# Altium integrated library Linear Technology Power Management LED Driver ICs.IntLib: 490 symbols (part 25 of 48)
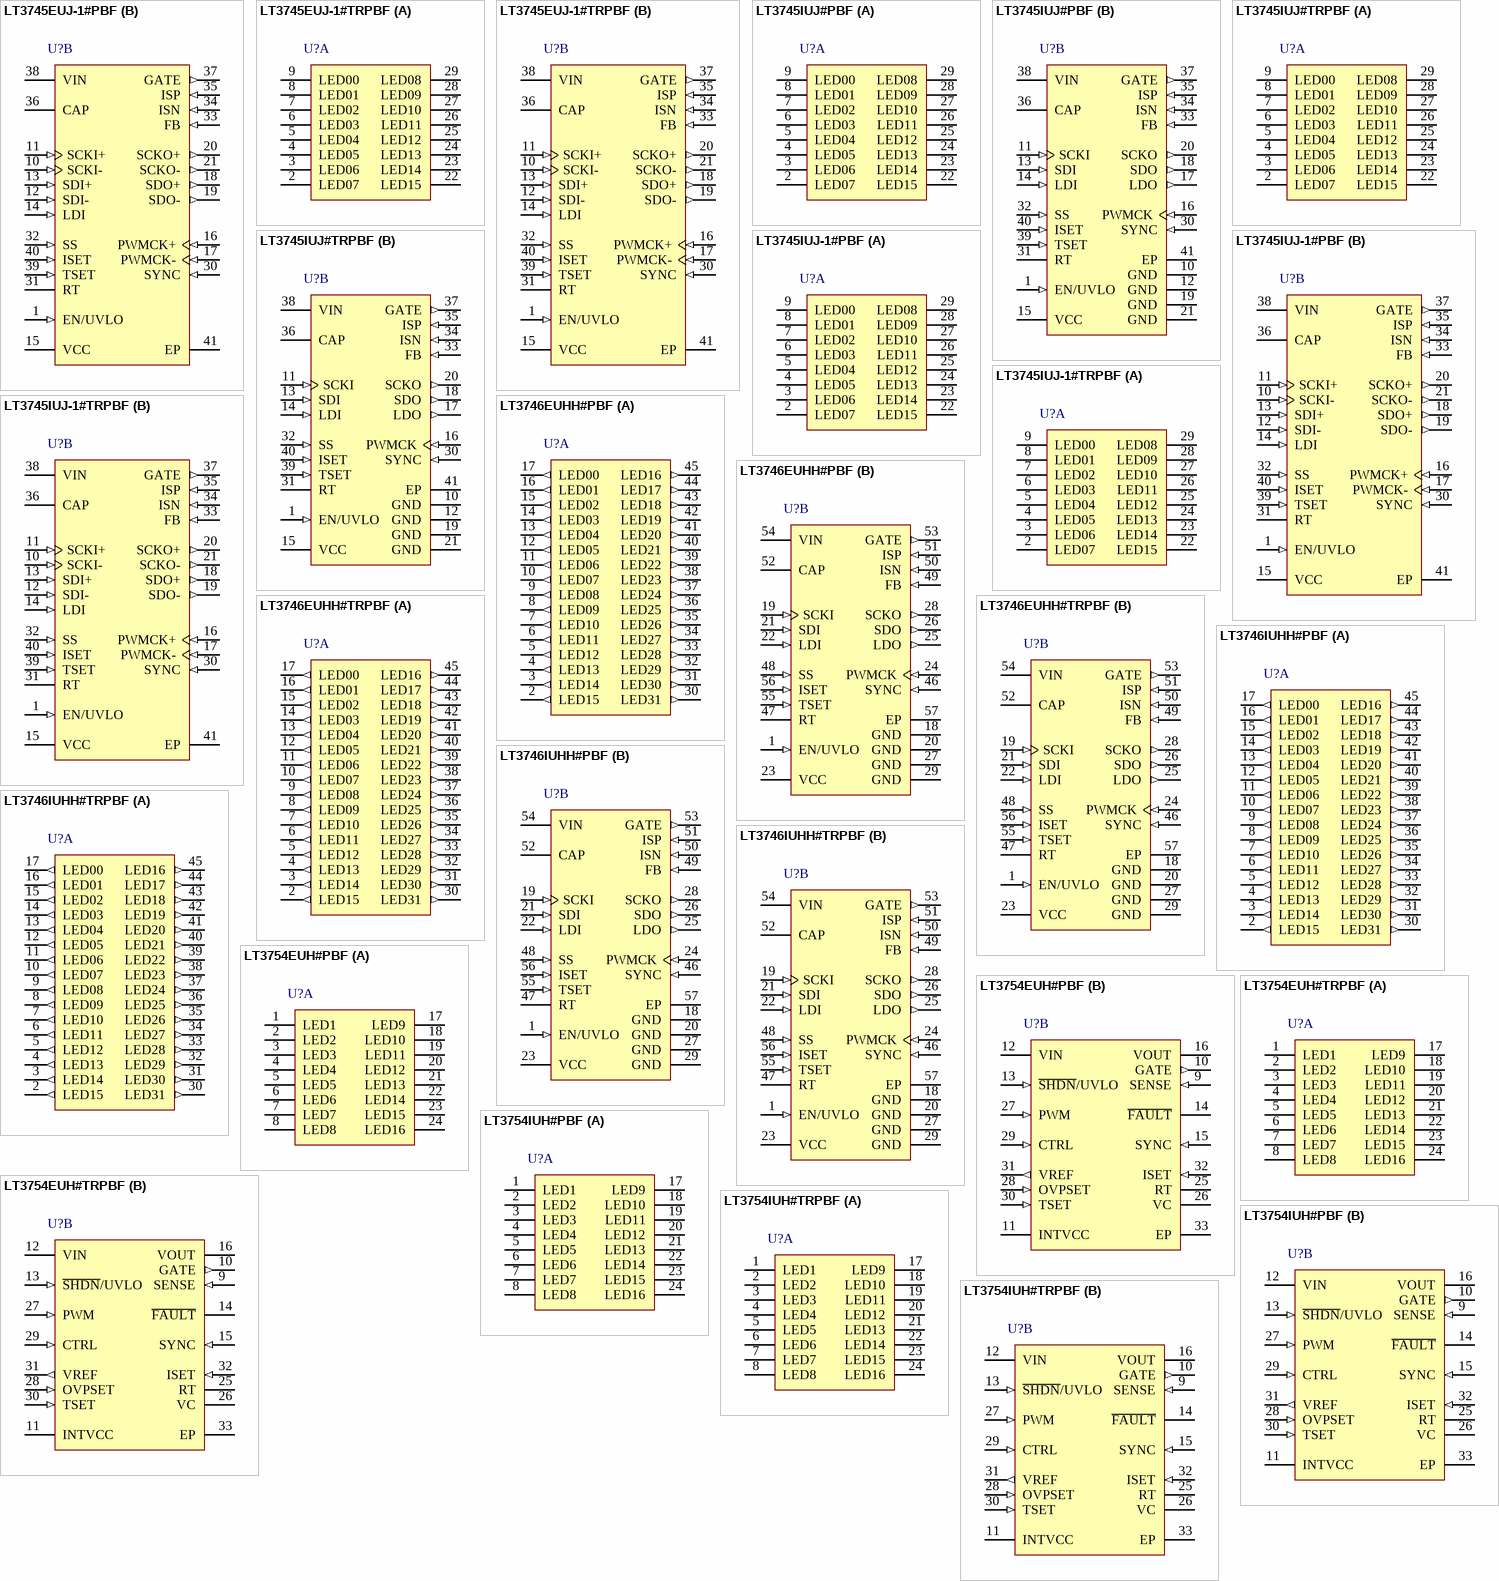
[diagram p44: symbols LT3745EUJ-1#PBF to LT3754IUH#TRPBF]

## LT3754IUH#PBF
designator U?
16-Channel x 50 mA LED Driver, 6 to 40 V Vin, 45 V Vout MAX, 32-pin QFN (UH-32), -40 to 125 degC, Pb-Free; Manufacturer: Linear Technology; PartNumber: LT3754IUH#PBF; Topology: Boost, LED Driver; Vin Min(V): 6; DatasheetVersion: Rev. C; PackageVersion: Rev. D, 06/2010; PackageReference: UH-32; PackageDescription: 32-Pin Plastic QFN, Body 5 x 5 mm, Pitch 0.5 mm; Supplier 1: Digi-Key; Supplier Part Number 1: LT3754IUH#PBF-ND; Supplier 2: Newark; Supplier Part Number 2: 72R5836; RoHS: TRUE; Mounting Technology: Surface Mount; Code_JEDEC: MO-220; ComponentLink1Description: Manufacturer URL; ComponentLink1URL: http://www.linear.com/; ComponentLink2Description: Datasheet; ComponentLink2URL: http://cds.linear.com/docs/en/datasheet/3754fc.pdf; ComponentLink3Description: Package Specification; ComponentLink3URL: http://cds.linear.com/docs/en/packaging/QFN_32_05-08-1693.pdf
footprint LT-UH-32_N (QFN, 32-Leads, Body 5.1x5.1mm, Pitch 0.5mm, Thermal Pad 3.45X3.45mm, IPC Medium Density)
footprint LT-UH-32_L (QFN, 32-Leads, Body 5.1x5.1mm, Pitch 0.5mm, Thermal Pad 3.45X3.45mm, IPC High Density)
footprint LT-UH-32_M (QFN, 32-Leads, Body 5.1x5.1mm, Pitch 0.5mm, Thermal Pad 3.45X3.45mm, IPC Low Density)
part A pins: 1 LED1 (oc) "16 LED Driver Outputs. Each output contains an open collector constant current sink. LED currents are programmable from 10mA to 50mA using a single resistor at the ISET pin. Connect the cathode of each LED string to an LED (See Datasheet)", 2 LED2 (oc) "16 LED Driver Outputs. Each output contains an open collector constant current sink. LED currents are programmable from 10mA to 50mA using a single resistor at the ISET pin. Connect the cathode of each LED string to an LED (See Datasheet)", 3 LED3 (oc) "16 LED Driver Outputs. Each output contains an open collector constant current sink. LED currents are programmable from 10mA to 50mA using a single resistor at the ISET pin. Connect the cathode of each LED string to an LED (See Datasheet)", 4 LED4 (oc) "16 LED Driver Outputs. Each output contains an open collector constant current sink. LED currents are programmable from 10mA to 50mA using a single resistor at the ISET pin. Connect the cathode of each LED string to an LED (See Datasheet)", 5 LED5 (oc) "16 LED Driver Outputs. Each output contains an open collector constant current sink. LED currents are programmable from 10mA to 50mA using a single resistor at the ISET pin. Connect the cathode of each LED string to an LED (See Datasheet)", 6 LED6 (oc) "16 LED Driver Outputs. Each output contains an open collector constant current sink. LED currents are programmable from 10mA to 50mA using a single resistor at the ISET pin. Connect the cathode of each LED string to an LED (See Datasheet)", 7 LED7 (oc) "16 LED Driver Outputs. Each output contains an open collector constant current sink. LED currents are programmable from 10mA to 50mA using a single resistor at the ISET pin. Connect the cathode of each LED string to an LED (See Datasheet)", 8 LED8 (oc) "16 LED Driver Outputs. Each output contains an open collector constant current sink. LED currents are programmable from 10mA to 50mA using a single resistor at the ISET pin. Connect the cathode of each LED string to an LED (See Datasheet)", 17 LED9 (oc) "16 LED Driver Outputs. Each output contains an open collector constant current sink. LED currents are programmable from 10mA to 50mA using a single resistor at the ISET pin. Connect the cathode of each LED string to an LED (See Datasheet)", 18 LED10 (oc) "16 LED Driver Outputs. Each output contains an open collector constant current sink. LED currents are programmable from 10mA to 50mA using a single resistor at the ISET pin. Connect the cathode of each LED string to an LED (See Datasheet)", 19 LED11 (oc) "16 LED Driver Outputs. Each output contains an open collector constant current sink. LED currents are programmable from 10mA to 50mA using a single resistor at the ISET pin. Connect the cathode of each LED string to an LED (See Datasheet)", 20 LED12 (oc) "16 LED Driver Outputs. Each output contains an open collector constant current sink. LED currents are programmable from 10mA to 50mA using a single resistor at the ISET pin. Connect the cathode of each LED string to an LED (See Datasheet)", 21 LED13 (oc) "16 LED Driver Outputs. Each output contains an open collector constant current sink. LED currents are programmable from 10mA to 50mA using a single resistor at the ISET pin. Connect the cathode of each LED string to an LED (See Datasheet)", 22 LED14 (oc) "16 LED Driver Outputs. Each output contains an open collector constant current sink. LED currents are programmable from 10mA to 50mA using a single resistor at the ISET pin. Connect the cathode of each LED string to an LED (See Datasheet)", 23 LED15 (oc) "16 LED Driver Outputs. Each output contains an open collector constant current sink. LED currents are programmable from 10mA to 50mA using a single resistor at the ISET pin. Connect the cathode of each LED string to an LED (See Datasheet)", 24 LED16 (oc) "16 LED Driver Outputs. Each output contains an open collector constant current sink. LED currents are programmable from 10mA to 50mA using a single resistor at the ISET pin. Connect the cathode of each LED string to an LED (See Datasheet)"
part B pins: 9 SENSE (in) "The Current Sense Input for the Control Loop. Connect this pin to the sense resistor in the source of the external power MOSFET.", 10 GATE (out) "Drives the gate of an N-channel MOSFET from 0V to INTVCC.", 11 INTVCC (power) "A 7V LDO supply generated from VIN and used to power the GATE driver and some control circuitry. Must be bypassed with a 4.7uF capacitor to GND.", 12 VIN (power) "Input Supply Pin. Must be locally bypassed with a 1uF capacitor to ground.", 13 ~{SHDN}/UVLO (in) "The S\H\D\N\/UVLO pin has an accurate 1.476V threshold and can be used to program an under voltage lockout (UVLO) threshold for system input supply using a resistor divider from supply to ground. A 2.4uA pin (See Datasheet)", 14 ~{FAULT} (oc) "Active low if any or all LED strings have an open fault. If fault(s) removed, F\A\U\L\T\ flag returns high.Fault status is only updated during PWM high state and latched during PWM low.", 15 SYNC (in) "Allows synchronization of boost converter switching frequency to an external clock. RT resistor should be programmed for fOSC 20% below SYNC frequency. If unused, connect to GND.", 16 VOUT (power) "Boosted Output Voltage of the Converter. Connect a capacitor from this pin to ground. Connect the anode of each LED (string) to VOUT.", 25 RT "A resistor to ground programs switching frequency fOSC between 0.1MHz and 1MHz.", 26 VC "Output of Both Transconductance Error Amplifiers for the Converter Regulation Loop. The most commonly used gm error amplifier (LED) regulates VOUT to ensure no LED pin falls below 1.1V. The other gm error amplifier (OVP) is (See Datasheet)", 27 PWM (in) "Input Pin for PWM Dimming Control. Above 1.4V allows converter switching and below 0.7V disables switching. The PWM signal can be driven from 0V to 6V. If unused, connect to VREF.", 28 OVPSET (in) "Programs maximum allowed VOUT regulation level if all LEDs are open circuit.", 29 CTRL (in) "CTRL pin voltage below 1V controls maximum LED current. CTRL voltage can be set by a resistor divider from VIN, VREF or an external voltage source. LED current derating versus temperature is achievable if the voltage (See Datasheet)", 30 TSET (in) "Programs LT3754 junction temperature breakpoint past which LED current will begin to derate.", 31 VREF (out) "1.485V Reference Output Pin. This pin can supply up to 150uA. Can be used to program CTRL, TSET and OVPSET pin voltages using resistor dividers to ground.", 32 ISET (in) "Resistor to Ground Programs LED pin current. See Table 6 in the Applications Information Section.", 33 EP (power) "GND. The ground for the IC and the converter. The package has an exposed pad (Pin 33) underneath the IC which is the best path for heat out of the package. Pin 33 should be soldered to a continuous copper ground plane under (See Datasheet)"

## LT3754IUH#TRPBF
designator U?
16-Channel x 50 mA LED Driver, 6 to 40 V Vin, 45 V Vout MAX, 32-pin QFN (UH-32), -40 to 125 degC, Pb-Free, Tape and Reel; Manufacturer: Linear Technology; PartNumber: LT3754IUH#TRPBF; Topology: Boost, LED Driver; Vin Min(V): 6; DatasheetVersion: Rev. C; PackageVersion: Rev. D, 06/2010; PackageReference: UH-32; PackageDescription: 32-Pin Plastic QFN, Body 5 x 5 mm, Pitch 0.5 mm; Supplier 1: Digi-Key; Supplier Part Number 1: LT3754IUH#TRPBF-ND; Packing: Tape and Reel; RoHS: TRUE; Mounting Technology: Surface Mount; Code_JEDEC: MO-220; ComponentLink1Description: Manufacturer URL; ComponentLink1URL: http://www.linear.com/; ComponentLink2Description: Datasheet; ComponentLink2URL: http://cds.linear.com/docs/en/datasheet/3754fc.pdf; ComponentLink3Description: Package Specification; ComponentLink3URL: http://cds.linear.com/docs/en/packaging/QFN_32_05-08-1693.pdf
footprint LT-UH-32_N (QFN, 32-Leads, Body 5.1x5.1mm, Pitch 0.5mm, Thermal Pad 3.45X3.45mm, IPC Medium Density)
footprint LT-UH-32_L (QFN, 32-Leads, Body 5.1x5.1mm, Pitch 0.5mm, Thermal Pad 3.45X3.45mm, IPC High Density)
footprint LT-UH-32_M (QFN, 32-Leads, Body 5.1x5.1mm, Pitch 0.5mm, Thermal Pad 3.45X3.45mm, IPC Low Density)
part A pins: 1 LED1 (oc) "16 LED Driver Outputs. Each output contains an open collector constant current sink. LED currents are programmable from 10mA to 50mA using a single resistor at the ISET pin. Connect the cathode of each LED string to an LED (See Datasheet)", 2 LED2 (oc) "16 LED Driver Outputs. Each output contains an open collector constant current sink. LED currents are programmable from 10mA to 50mA using a single resistor at the ISET pin. Connect the cathode of each LED string to an LED (See Datasheet)", 3 LED3 (oc) "16 LED Driver Outputs. Each output contains an open collector constant current sink. LED currents are programmable from 10mA to 50mA using a single resistor at the ISET pin. Connect the cathode of each LED string to an LED (See Datasheet)", 4 LED4 (oc) "16 LED Driver Outputs. Each output contains an open collector constant current sink. LED currents are programmable from 10mA to 50mA using a single resistor at the ISET pin. Connect the cathode of each LED string to an LED (See Datasheet)", 5 LED5 (oc) "16 LED Driver Outputs. Each output contains an open collector constant current sink. LED currents are programmable from 10mA to 50mA using a single resistor at the ISET pin. Connect the cathode of each LED string to an LED (See Datasheet)", 6 LED6 (oc) "16 LED Driver Outputs. Each output contains an open collector constant current sink. LED currents are programmable from 10mA to 50mA using a single resistor at the ISET pin. Connect the cathode of each LED string to an LED (See Datasheet)", 7 LED7 (oc) "16 LED Driver Outputs. Each output contains an open collector constant current sink. LED currents are programmable from 10mA to 50mA using a single resistor at the ISET pin. Connect the cathode of each LED string to an LED (See Datasheet)", 8 LED8 (oc) "16 LED Driver Outputs. Each output contains an open collector constant current sink. LED currents are programmable from 10mA to 50mA using a single resistor at the ISET pin. Connect the cathode of each LED string to an LED (See Datasheet)", 17 LED9 (oc) "16 LED Driver Outputs. Each output contains an open collector constant current sink. LED currents are programmable from 10mA to 50mA using a single resistor at the ISET pin. Connect the cathode of each LED string to an LED (See Datasheet)", 18 LED10 (oc) "16 LED Driver Outputs. Each output contains an open collector constant current sink. LED currents are programmable from 10mA to 50mA using a single resistor at the ISET pin. Connect the cathode of each LED string to an LED (See Datasheet)", 19 LED11 (oc) "16 LED Driver Outputs. Each output contains an open collector constant current sink. LED currents are programmable from 10mA to 50mA using a single resistor at the ISET pin. Connect the cathode of each LED string to an LED (See Datasheet)", 20 LED12 (oc) "16 LED Driver Outputs. Each output contains an open collector constant current sink. LED currents are programmable from 10mA to 50mA using a single resistor at the ISET pin. Connect the cathode of each LED string to an LED (See Datasheet)", 21 LED13 (oc) "16 LED Driver Outputs. Each output contains an open collector constant current sink. LED currents are programmable from 10mA to 50mA using a single resistor at the ISET pin. Connect the cathode of each LED string to an LED (See Datasheet)", 22 LED14 (oc) "16 LED Driver Outputs. Each output contains an open collector constant current sink. LED currents are programmable from 10mA to 50mA using a single resistor at the ISET pin. Connect the cathode of each LED string to an LED (See Datasheet)", 23 LED15 (oc) "16 LED Driver Outputs. Each output contains an open collector constant current sink. LED currents are programmable from 10mA to 50mA using a single resistor at the ISET pin. Connect the cathode of each LED string to an LED (See Datasheet)", 24 LED16 (oc) "16 LED Driver Outputs. Each output contains an open collector constant current sink. LED currents are programmable from 10mA to 50mA using a single resistor at the ISET pin. Connect the cathode of each LED string to an LED (See Datasheet)"
part B pins: 9 SENSE (in) "The Current Sense Input for the Control Loop. Connect this pin to the sense resistor in the source of the external power MOSFET.", 10 GATE (out) "Drives the gate of an N-channel MOSFET from 0V to INTVCC.", 11 INTVCC (power) "A 7V LDO supply generated from VIN and used to power the GATE driver and some control circuitry. Must be bypassed with a 4.7uF capacitor to GND.", 12 VIN (power) "Input Supply Pin. Must be locally bypassed with a 1uF capacitor to ground.", 13 ~{SHDN}/UVLO (in) "The S\H\D\N\/UVLO pin has an accurate 1.476V threshold and can be used to program an under voltage lockout (UVLO) threshold for system input supply using a resistor divider from supply to ground. A 2.4uA pin (See Datasheet)", 14 ~{FAULT} (oc) "Active low if any or all LED strings have an open fault. If fault(s) removed, F\A\U\L\T\ flag returns high.Fault status is only updated during PWM high state and latched during PWM low.", 15 SYNC (in) "Allows synchronization of boost converter switching frequency to an external clock. RT resistor should be programmed for fOSC 20% below SYNC frequency. If unused, connect to GND.", 16 VOUT (power) "Boosted Output Voltage of the Converter. Connect a capacitor from this pin to ground. Connect the anode of each LED (string) to VOUT.", 25 RT "A resistor to ground programs switching frequency fOSC between 0.1MHz and 1MHz.", 26 VC "Output of Both Transconductance Error Amplifiers for the Converter Regulation Loop. The most commonly used gm error amplifier (LED) regulates VOUT to ensure no LED pin falls below 1.1V. The other gm error amplifier (OVP) is (See Datasheet)", 27 PWM (in) "Input Pin for PWM Dimming Control. Above 1.4V allows converter switching and below 0.7V disables switching. The PWM signal can be driven from 0V to 6V. If unused, connect to VREF.", 28 OVPSET (in) "Programs maximum allowed VOUT regulation level if all LEDs are open circuit.", 29 CTRL (in) "CTRL pin voltage below 1V controls maximum LED current. CTRL voltage can be set by a resistor divider from VIN, VREF or an external voltage source. LED current derating versus temperature is achievable if the voltage (See Datasheet)", 30 TSET (in) "Programs LT3754 junction temperature breakpoint past which LED current will begin to derate.", 31 VREF (out) "1.485V Reference Output Pin. This pin can supply up to 150uA. Can be used to program CTRL, TSET and OVPSET pin voltages using resistor dividers to ground.", 32 ISET (in) "Resistor to Ground Programs LED pin current. See Table 6 in the Applications Information Section.", 33 EP (power) "GND. The ground for the IC and the converter. The package has an exposed pad (Pin 33) underneath the IC which is the best path for heat out of the package. Pin 33 should be soldered to a continuous copper ground plane under (See Datasheet)"

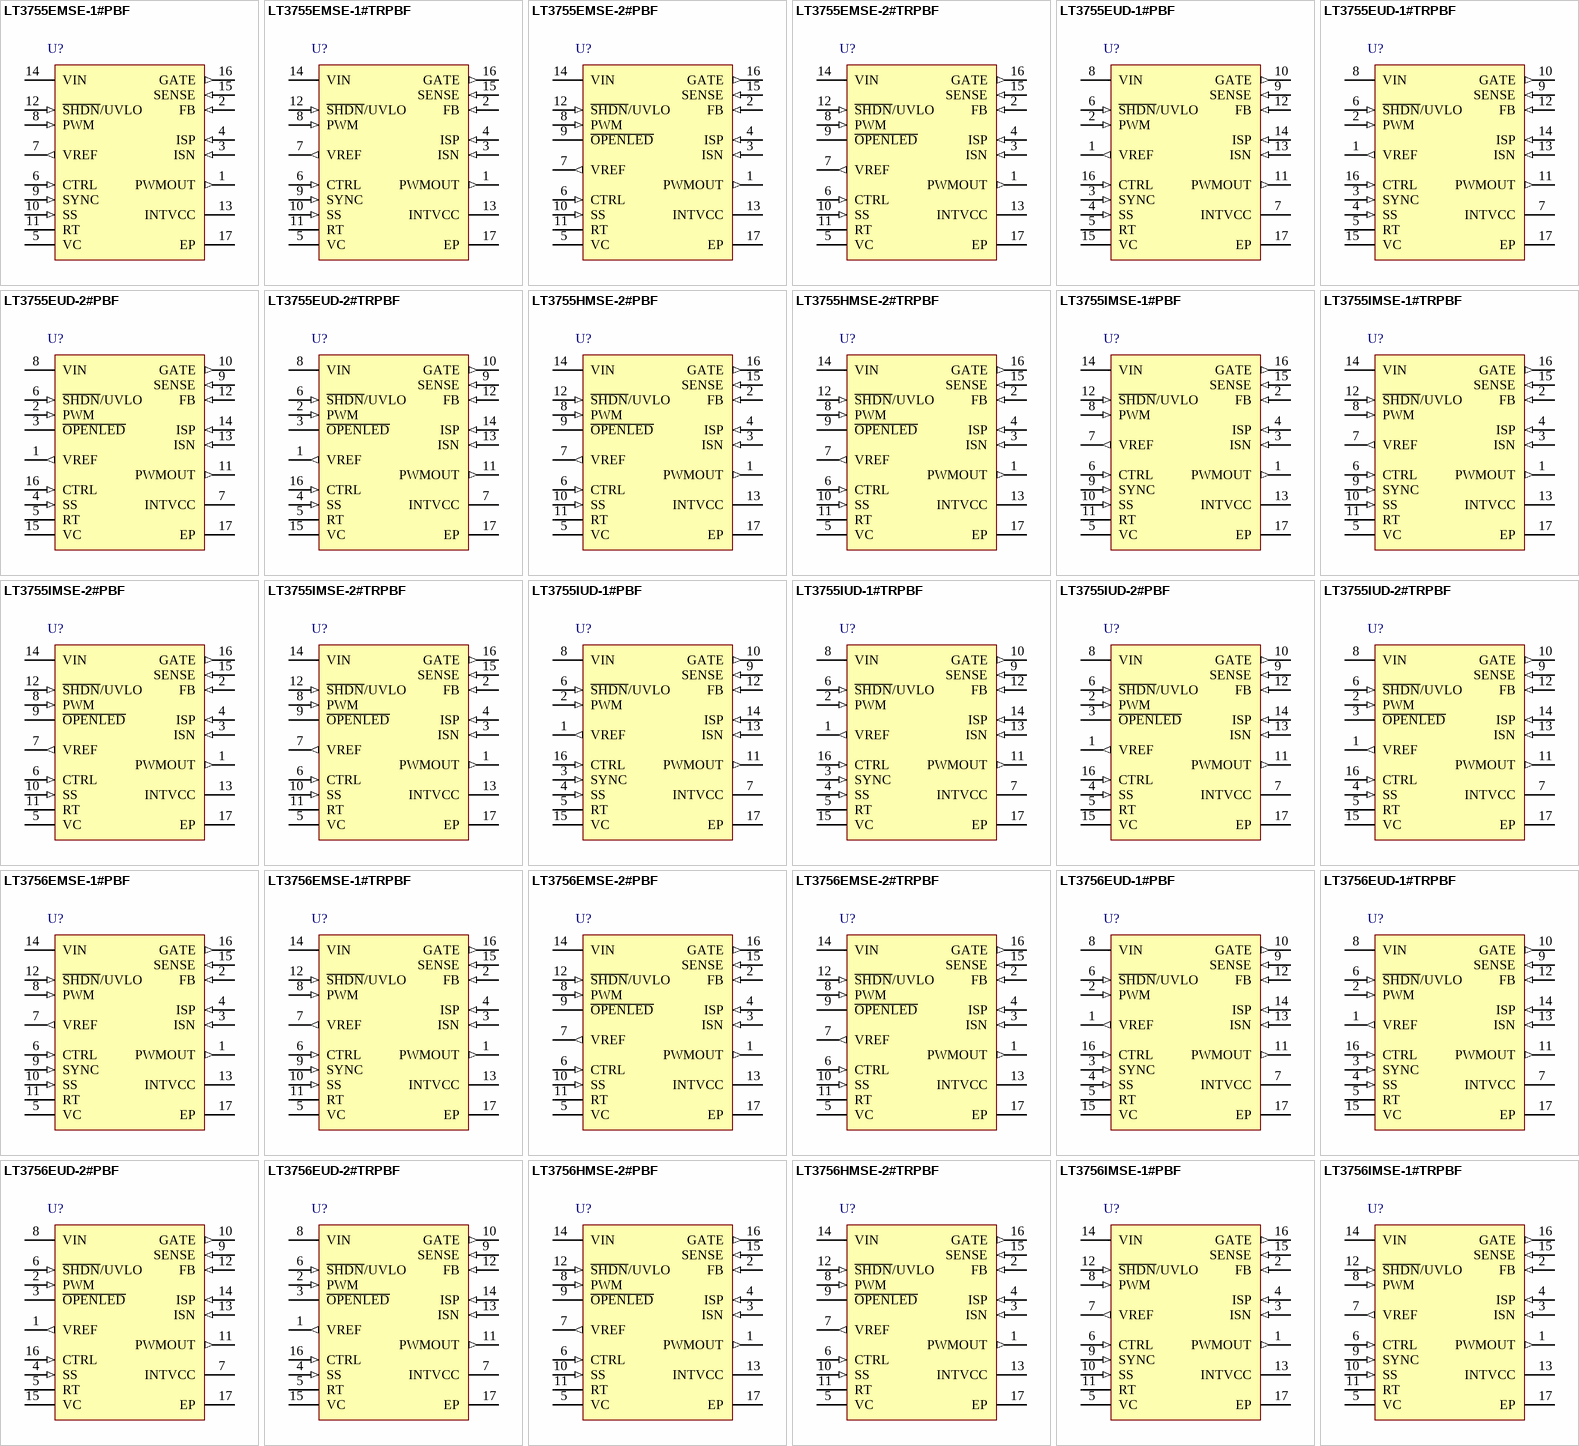
[diagram p11: symbols LT3755EMSE-1#PBF to LT3756IMSE-1#TRPBF]

## LT3755EMSE-1#PBF
designator U?
LED Controller (Frequency Synchronization), 4.5 to 40 V Vin, 75 V Vout MAX, 16-pin SOP (MSE-16-EDP), -40 to 125 degC, Pb-Free; Manufacturer: Linear Technology; PartNumber: LT3755EMSE-1#PBF; Topology: Buck, Boost, Sepic, Buck-Boost, LED Driver; Vin Min(V): 4.5; DatasheetVersion: Rev. D; PackageVersion: Rev. F, 05/2013; PackageReference: MSE-16; PackageDescription: 16-Pin Plastic MSOP, Exposed Die Pad, Body 4.039 x 3 mm, Pitch 0.5 mm; Supplier 1: Digi-Key; Supplier Part Number 1: LT3755EMSE-1#PBF-ND; Supplier 2: Newark; Supplier Part Number 2: 07P8436; RoHS: TRUE; Mounting Technology: Surface Mount; ComponentLink1Description: Manufacturer URL; ComponentLink1URL: http://www.linear.com/; ComponentLink2Description: Datasheet; ComponentLink2URL: http://cds.linear.com/docs/en/datasheet/37551fd.pdf; ComponentLink3Description: Package Specification; ComponentLink3URL: http://cds.linear.com/docs/en/packaging/05081667_F_MSE16.pdf
footprint LT-MSE-16-EDP_N (SOP, 16-Leads, Body 4.1x3.1mm, Pitch 0.5mm, Thermal Pad 2.95x1.76mm, IPC Medium Density)
footprint LT-MSE-16-EDP_L (SOP, 16-Leads, Body 4.1x3.1mm, Pitch 0.5mm, Thermal Pad 2.95x1.76mm, IPC High Density)
footprint LT-MSE-16-EDP_M (SOP, 16-Leads, Body 4.1x3.1mm, Pitch 0.5mm, Thermal Pad 2.95x1.76mm, IPC Low Density)
pins: 1 PWMOUT (out) "Buffered Version of PWM Signal for Driving LED Load Disconnect NMOS or Level Shift. This pin also serves in a protection function for the FB overvoltage condition-will toggle if the FB input is greater than the FB regulation (See Datasheet)", 2 FB (in) "Voltage Loop Feedback Pin. FB is intended for constant-voltage regulation or for LED protection/ open LED detection. The internal transconductance amplifier with output VC will regulate FB to 1.25V (nominal) through the (See Datasheet)", 3 ISN (in) "Connection Point for the Negative Terminal of the Current Feedback Resistor. If ISN is greater than 2.9V, the LED current can be programmed by ILED = 100mV/RLED when VCTRL > 1.2V or ILED = (VCTRL -100mV)/ (10 ? RLED) when (See Datasheet)", 4 ISP (in) "Connection Point for the Positive Terminal of the Current Feedback Resistor. Input bias current is dependent upon CTRL pin voltage as shown in the TPC. ISP is an input to the short-circuit protection feature when ISN is less (See Datasheet)", 5 VC "Transconductance Error Amplifier Output Pin Used to Stabilize the Voltage Loop with an RC Network. This pin is high impedance when PWM is low, a feature that stores the demand current state variable for the next PWM high (See Datasheet)", 6 CTRL (in) "Current Sense Threshold Adjustment Pin. Regulating threshold V(ISP - ISN) is 1/10th VCTRL plus an offset for 0V < VCTRL < 1V. For VCTRL > 1.2V the current sense threshold is constant at the full-scale value of 100mV. For 1V (See Datasheet)", 7 VREF (out) "Voltage Reference Output Pin, Typically 2V. This pin drives a resistor divider for the CTRL pin, either for analog dimming or for temperature limit/compensation of LED load. Can supply up to 100uA.", 8 PWM (in) "A signal low turns off switcher, idles oscillator and disconnects VC pin from all internal loads. PWMOUT pin follows PWM pin. PWM has an internal pull-down resistor. If not used, connect to INTVCC.", 9 SYNC (in), 10 SS (in) "Soft-Start Pin. This pin modulates oscillator frequency and compensation pin voltage (VC) clamp. The soft-start interval is set with an external capacitor. The pin has a 10uA (typical) pull-up current source to an internal 2.(See Datasheet)", 11 RT "Switching Frequency Adjustment Pin. Set the frequency using a resistor to GND (for resistor values, see the Typical Performance curve or Table 1). Do not leave the RT pin open.", 12 ~{SHDN}/UVLO (in) "Shutdown and Undervoltage Detect Pin. An accurate 1.22V falling threshold with externally programmable hysteresis detects when power is OK to enable switching. Rising hysteresis is generated by the external resistor divider (See Datasheet)", 13 INTVCC (power) "Regulated Supply for Internal Loads, GATE Driver and PWMOUT Driver. Supplied from VIN and regulates to 7.15V (typical). INTVCC must be bypassed with a 4.7uF capacitor placed close to the pin. Connect INTVCC directly to VIN (See Datasheet)", 14 VIN (power) "Input Supply Pin. Must be locally bypassed with a 0.22uF (or larger) capacitor placed close to the IC.", 15 SENSE (in), 16 GATE (out) "N-channel FET Gate Driver Output. Switches between INTVCC and GND. Driven to GND during shutdown, fault or idle states.", 17 EP (power) "Ground. This pin also serves as current sense input for control loop, sensing negative terminal of current sense resistor. Solder the exposed pad directly to ground plane."

## LT3755EMSE-1#TRPBF
designator U?
LED Controller (Frequency Synchronization), 4.5 to 40 V Vin, 75 V Vout MAX, 16-pin SOP (MSE-16-EDP), -40 to 125 degC, Pb-Free, Tape and Reel; Manufacturer: Linear Technology; PartNumber: LT3755EMSE-1#TRPBF; Topology: Buck, Boost, Sepic, Buck-Boost, LED Driver; Vin Min(V): 4.5; DatasheetVersion: Rev. D; PackageVersion: Rev. F, 05/2013; PackageReference: MSE-16; PackageDescription: 16-Pin Plastic MSOP, Exposed Die Pad, Body 4.039 x 3 mm, Pitch 0.5 mm; Supplier 1: Digi-Key; Supplier Part Number 1: LT3755EMSE-1#TRPBF-ND; Packing: Tape and Reel; RoHS: TRUE; Mounting Technology: Surface Mount; ComponentLink1Description: Manufacturer URL; ComponentLink1URL: http://www.linear.com/; ComponentLink2Description: Datasheet; ComponentLink2URL: http://cds.linear.com/docs/en/datasheet/37551fd.pdf; ComponentLink3Description: Package Specification; ComponentLink3URL: http://cds.linear.com/docs/en/packaging/05081667_F_MSE16.pdf
footprint LT-MSE-16-EDP_N (SOP, 16-Leads, Body 4.1x3.1mm, Pitch 0.5mm, Thermal Pad 2.95x1.76mm, IPC Medium Density)
footprint LT-MSE-16-EDP_L (SOP, 16-Leads, Body 4.1x3.1mm, Pitch 0.5mm, Thermal Pad 2.95x1.76mm, IPC High Density)
footprint LT-MSE-16-EDP_M (SOP, 16-Leads, Body 4.1x3.1mm, Pitch 0.5mm, Thermal Pad 2.95x1.76mm, IPC Low Density)
pins: 1 PWMOUT (out) "Buffered Version of PWM Signal for Driving LED Load Disconnect NMOS or Level Shift. This pin also serves in a protection function for the FB overvoltage condition-will toggle if the FB input is greater than the FB regulation (See Datasheet)", 2 FB (in) "Voltage Loop Feedback Pin. FB is intended for constant-voltage regulation or for LED protection/ open LED detection. The internal transconductance amplifier with output VC will regulate FB to 1.25V (nominal) through the (See Datasheet)", 3 ISN (in) "Connection Point for the Negative Terminal of the Current Feedback Resistor. If ISN is greater than 2.9V, the LED current can be programmed by ILED = 100mV/RLED when VCTRL > 1.2V or ILED = (VCTRL -100mV)/ (10 ? RLED) when (See Datasheet)", 4 ISP (in) "Connection Point for the Positive Terminal of the Current Feedback Resistor. Input bias current is dependent upon CTRL pin voltage as shown in the TPC. ISP is an input to the short-circuit protection feature when ISN is less (See Datasheet)", 5 VC "Transconductance Error Amplifier Output Pin Used to Stabilize the Voltage Loop with an RC Network. This pin is high impedance when PWM is low, a feature that stores the demand current state variable for the next PWM high (See Datasheet)", 6 CTRL (in) "Current Sense Threshold Adjustment Pin. Regulating threshold V(ISP - ISN) is 1/10th VCTRL plus an offset for 0V < VCTRL < 1V. For VCTRL > 1.2V the current sense threshold is constant at the full-scale value of 100mV. For 1V (See Datasheet)", 7 VREF (out) "Voltage Reference Output Pin, Typically 2V. This pin drives a resistor divider for the CTRL pin, either for analog dimming or for temperature limit/compensation of LED load. Can supply up to 100uA.", 8 PWM (in) "A signal low turns off switcher, idles oscillator and disconnects VC pin from all internal loads. PWMOUT pin follows PWM pin. PWM has an internal pull-down resistor. If not used, connect to INTVCC.", 9 SYNC (in), 10 SS (in) "Soft-Start Pin. This pin modulates oscillator frequency and compensation pin voltage (VC) clamp. The soft-start interval is set with an external capacitor. The pin has a 10uA (typical) pull-up current source to an internal 2.(See Datasheet)", 11 RT "Switching Frequency Adjustment Pin. Set the frequency using a resistor to GND (for resistor values, see the Typical Performance curve or Table 1). Do not leave the RT pin open.", 12 ~{SHDN}/UVLO (in) "Shutdown and Undervoltage Detect Pin. An accurate 1.22V falling threshold with externally programmable hysteresis detects when power is OK to enable switching. Rising hysteresis is generated by the external resistor divider (See Datasheet)", 13 INTVCC (power) "Regulated Supply for Internal Loads, GATE Driver and PWMOUT Driver. Supplied from VIN and regulates to 7.15V (typical). INTVCC must be bypassed with a 4.7uF capacitor placed close to the pin. Connect INTVCC directly to VIN (See Datasheet)", 14 VIN (power) "Input Supply Pin. Must be locally bypassed with a 0.22uF (or larger) capacitor placed close to the IC.", 15 SENSE (in), 16 GATE (out) "N-channel FET Gate Driver Output. Switches between INTVCC and GND. Driven to GND during shutdown, fault or idle states.", 17 EP (power) "Ground. This pin also serves as current sense input for control loop, sensing negative terminal of current sense resistor. Solder the exposed pad directly to ground plane."

## LT3755EMSE-2#PBF
designator U?
LED Controller (Improved Open LED Status Pin), 4.5 to 40 V Vin, 75 V Vout MAX, 16-pin SOP (MSE-16-EDP), -40 to 125 degC, Pb-Free; Manufacturer: Linear Technology; PartNumber: LT3755EMSE-2#PBF; Topology: Buck, Boost, Sepic, Buck-Boost, LED Driver; Vin Min(V): 4.5; DatasheetVersion: Rev. D; PackageVersion: Rev. F, 05/2013; PackageReference: MSE-16; PackageDescription: 16-Pin Plastic MSOP, Exposed Die Pad, Body 4.039 x 3 mm, Pitch 0.5 mm; Supplier 1: Digi-Key; Supplier Part Number 1: LT3755EMSE-2#PBF-ND; Supplier 2: Farnell; Supplier Part Number 2: 2294856; Supplier 3: Newark; Supplier Part Number 3: 24R3354; RoHS: TRUE; Mounting Technology: Surface Mount; ComponentLink1Description: Manufacturer URL; ComponentLink1URL: http://www.linear.com/; ComponentLink2Description: Datasheet; ComponentLink2URL: http://cds.linear.com/docs/en/datasheet/37551fd.pdf; ComponentLink3Description: Package Specification; ComponentLink3URL: http://cds.linear.com/docs/en/packaging/05081667_F_MSE16.pdf
footprint LT-MSE-16-EDP_N (SOP, 16-Leads, Body 4.1x3.1mm, Pitch 0.5mm, Thermal Pad 2.95x1.76mm, IPC Medium Density)
footprint LT-MSE-16-EDP_L (SOP, 16-Leads, Body 4.1x3.1mm, Pitch 0.5mm, Thermal Pad 2.95x1.76mm, IPC High Density)
footprint LT-MSE-16-EDP_M (SOP, 16-Leads, Body 4.1x3.1mm, Pitch 0.5mm, Thermal Pad 2.95x1.76mm, IPC Low Density)
pins: 1 PWMOUT (out) "Buffered Version of PWM Signal for Driving LED Load Disconnect NMOS or Level Shift. This pin also serves in a protection function for the FB overvoltage condition-will toggle if the FB input is greater than the FB regulation (See Datasheet)", 2 FB (in) "Voltage Loop Feedback Pin. FB is intended for constant-voltage regulation or for LED protection/ open LED detection. The internal transconductance amplifier with output VC will regulate FB to 1.25V (nominal) through the (See Datasheet)", 3 ISN (in) "Connection Point for the Negative Terminal of the Current Feedback Resistor. If ISN is greater than 2.9V, the LED current can be programmed by ILED = 100mV/RLED when VCTRL > 1.2V or ILED = (VCTRL -100mV)/ (10 ? RLED) when (See Datasheet)", 4 ISP (in) "Connection Point for the Positive Terminal of the Current Feedback Resistor. Input bias current is dependent upon CTRL pin voltage as shown in the TPC. ISP is an input to the short?circuit protection feature when ISN is less (See Datasheet)", 5 VC "Transconductance Error Amplifier Output Pin Used to Stabilize the Voltage Loop with an RC Network. This pin is high impedance when PWM is low, a feature that stores the demand current state variable for the next PWM high (See Datasheet)", 6 CTRL (in) "Current Sense Threshold Adjustment Pin. Regulating threshold V(ISP - ISN) is 1/10th VCTRL plus an offset for 0V < VCTRL < 1V. For VCTRL > 1.2V the current sense threshold is constant at the full-scale value of 100mV. For 1V (See Datasheet)", 7 VREF (out) "Voltage Reference Output Pin, Typically 2V. This pin drives a resistor divider for the CTRL pin, either for analog dimming or for temperature limit/compensation of LED load. Can supply up to 100uA.", 8 PWM (in) "A signal low turns off switcher, idles oscillator and disconnects VC pin from all internal loads. PWMOUT pin follows PWM pin. PWM has an internal pull-down resistor. If not used, connect to INTVCC.", 9 ~{OPENLED} (oc) "An opencollector pull-down on O\P\E\N\L\E\D\ asserts if the FB input is greater than the FB regulation threshold minus 50mV (typical). To function, the pin requires an external pull-up current less than 1mA. When the PWM (See Datasheet)", 10 SS (in) "Soft-Start Pin. This pin modulates oscillator frequency and compensation pin voltage (VC) clamp. The soft-start interval is set with an external capacitor. The pin has a 10uA (typical) pull-up current source to an internal 2.(See Datasheet)", 11 RT "Switching Frequency Adjustment Pin. Set the frequency using a resistor to GND (for resistor values, see the Typical Performance curve or Table 1). Do not leave the RT pin open.", 12 ~{SHDN}/UVLO (in) "Shutdown and Undervoltage Detect Pin. An accurate 1.22V falling threshold with externally programmable hysteresis detects when power is OK to enable switching. Rising hysteresis is generated by the external resistor divider (See Datasheet)", 13 INTVCC (power) "Regulated Supply for Internal Loads, GATE Driver and PWMOUT Driver. Supplied from VIN and regulates to 7.15V (typical). INTVCC must be bypassed with a 4.7uF capacitor placed close to the pin. Connect INTVCC directly to VIN (See Datasheet)", 14 VIN (power) "Input Supply Pin. Must be locally bypassed with a 0.22uF (or larger) capacitor placed close to the IC.", 15 SENSE (in), 16 GATE (out) "N-channel FET Gate Driver Output. Switches between INTVCC and GND. Driven to GND during shutdown, fault or idle states.", 17 EP (power) "Ground. This pin also serves as current sense input for control loop, sensing negative terminal of current sense resistor. Solder the Exposed Pad directly to ground plane."

## LT3755EMSE-2#TRPBF
designator U?
LED Controller (Improved Open LED Status Pin), 4.5 to 40 V Vin, 75 V Vout MAX, 16-pin SOP (MSE-16-EDP), -40 to 125 degC, Pb-Free, Tape and Reel; Manufacturer: Linear Technology; PartNumber: LT3755EMSE-2#TRPBF; Topology: Buck, Boost, Sepic, Buck-Boost, LED Driver; Vin Min(V): 4.5; DatasheetVersion: Rev. D; PackageVersion: Rev. F, 05/2013; PackageReference: MSE-16; PackageDescription: 16-Pin Plastic MSOP, Exposed Die Pad, Body 4.039 x 3 mm, Pitch 0.5 mm; Supplier 1: Digi-Key; Supplier Part Number 1: LT3755EMSE-2#TRPBF-ND; Supplier 2: Newark; Supplier Part Number 2: 25R2552; Packing: Tape and Reel; RoHS: TRUE; Mounting Technology: Surface Mount; ComponentLink1Description: Manufacturer URL; ComponentLink1URL: http://www.linear.com/; ComponentLink2Description: Datasheet; ComponentLink2URL: http://cds.linear.com/docs/en/datasheet/37551fd.pdf; ComponentLink3Description: Package Specification; ComponentLink3URL: http://cds.linear.com/docs/en/packaging/05081667_F_MSE16.pdf
footprint LT-MSE-16-EDP_N (SOP, 16-Leads, Body 4.1x3.1mm, Pitch 0.5mm, Thermal Pad 2.95x1.76mm, IPC Medium Density)
footprint LT-MSE-16-EDP_L (SOP, 16-Leads, Body 4.1x3.1mm, Pitch 0.5mm, Thermal Pad 2.95x1.76mm, IPC High Density)
footprint LT-MSE-16-EDP_M (SOP, 16-Leads, Body 4.1x3.1mm, Pitch 0.5mm, Thermal Pad 2.95x1.76mm, IPC Low Density)
pins: 1 PWMOUT (out) "Buffered Version of PWM Signal for Driving LED Load Disconnect NMOS or Level Shift. This pin also serves in a protection function for the FB overvoltage condition-will toggle if the FB input is greater than the FB regulation (See Datasheet)", 2 FB (in) "Voltage Loop Feedback Pin. FB is intended for constant-voltage regulation or for LED protection/ open LED detection. The internal transconductance amplifier with output VC will regulate FB to 1.25V (nominal) through the (See Datasheet)", 3 ISN (in) "Connection Point for the Negative Terminal of the Current Feedback Resistor. If ISN is greater than 2.9V, the LED current can be programmed by ILED = 100mV/RLED when VCTRL > 1.2V or ILED = (VCTRL -100mV)/ (10 ? RLED) when (See Datasheet)", 4 ISP (in) "Connection Point for the Positive Terminal of the Current Feedback Resistor. Input bias current is dependent upon CTRL pin voltage as shown in the TPC. ISP is an input to the short?circuit protection feature when ISN is less (See Datasheet)", 5 VC "Transconductance Error Amplifier Output Pin Used to Stabilize the Voltage Loop with an RC Network. This pin is high impedance when PWM is low, a feature that stores the demand current state variable for the next PWM high (See Datasheet)", 6 CTRL (in) "Current Sense Threshold Adjustment Pin. Regulating threshold V(ISP - ISN) is 1/10th VCTRL plus an offset for 0V < VCTRL < 1V. For VCTRL > 1.2V the current sense threshold is constant at the full-scale value of 100mV. For 1V (See Datasheet)", 7 VREF (out) "Voltage Reference Output Pin, Typically 2V. This pin drives a resistor divider for the CTRL pin, either for analog dimming or for temperature limit/compensation of LED load. Can supply up to 100uA.", 8 PWM (in) "A signal low turns off switcher, idles oscillator and disconnects VC pin from all internal loads. PWMOUT pin follows PWM pin. PWM has an internal pull-down resistor. If not used, connect to INTVCC.", 9 ~{OPENLED} (oc) "An opencollector pull-down on O\P\E\N\L\E\D\ asserts if the FB input is greater than the FB regulation threshold minus 50mV (typical). To function, the pin requires an external pull-up current less than 1mA. When the PWM (See Datasheet)", 10 SS (in) "Soft-Start Pin. This pin modulates oscillator frequency and compensation pin voltage (VC) clamp. The soft-start interval is set with an external capacitor. The pin has a 10uA (typical) pull-up current source to an internal 2.(See Datasheet)", 11 RT "Switching Frequency Adjustment Pin. Set the frequency using a resistor to GND (for resistor values, see the Typical Performance curve or Table 1). Do not leave the RT pin open.", 12 ~{SHDN}/UVLO (in) "Shutdown and Undervoltage Detect Pin. An accurate 1.22V falling threshold with externally programmable hysteresis detects when power is OK to enable switching. Rising hysteresis is generated by the external resistor divider (See Datasheet)", 13 INTVCC (power) "Regulated Supply for Internal Loads, GATE Driver and PWMOUT Driver. Supplied from VIN and regulates to 7.15V (typical). INTVCC must be bypassed with a 4.7uF capacitor placed close to the pin. Connect INTVCC directly to VIN (See Datasheet)", 14 VIN (power) "Input Supply Pin. Must be locally bypassed with a 0.22uF (or larger) capacitor placed close to the IC.", 15 SENSE (in), 16 GATE (out) "N-channel FET Gate Driver Output. Switches between INTVCC and GND. Driven to GND during shutdown, fault or idle states.", 17 EP (power) "Ground. This pin also serves as current sense input for control loop, sensing negative terminal of current sense resistor. Solder the Exposed Pad directly to ground plane."

## LT3755EUD-1#PBF
designator U?
LED Controller (Frequency Synchronization), 4.5 to 40 V Vin, 75 V Vout MAX, 16-pin QFN (UD-16), -40 to 125 degC, Pb-Free; Manufacturer: Linear Technology; PartNumber: LT3755EUD-1#PBF; Topology: Buck, Boost, Sepic, Buck-Boost, LED Driver; Vin Min(V): 4.5; DatasheetVersion: Rev. D; PackageVersion: Jun-10; PackageReference: UD-16; PackageDescription: 16-Pin Plastic QFN, Body 3 x 3 mm, Pitch 0.5 mm; Supplier 1: Digi-Key; Supplier Part Number 1: LT3755EUD-1#PBF-ND; Supplier 2: Newark; Supplier Part Number 2: 01N6447; RoHS: TRUE; Mounting Technology: Surface Mount; Code_JEDEC: MO-220; ComponentLink1Description: Manufacturer URL; ComponentLink1URL: http://www.linear.com/; ComponentLink2Description: Datasheet; ComponentLink2URL: http://cds.linear.com/docs/en/datasheet/37551fd.pdf; ComponentLink3Description: Package Specification; ComponentLink3URL: http://cds.linear.com/docs/en/packaging/QFN_16_05-08-1691.pdf
footprint LT-UD-16_N (QFN, 16-Leads, Body 3x3mm, Pitch 0.5mm, Thermal Pad 1.45x1.45mm, IPC Medium Density)
footprint LT-UD-16_L (QFN, 16-Leads, Body 3x3mm, Pitch 0.5mm, Thermal Pad 1.45x1.45mm, IPC High Density)
footprint LT-UD-16_M (QFN, 16-Leads, Body 3x3mm, Pitch 0.5mm, Thermal Pad 1.45x1.45mm, IPC Low Density)
pins: 1 VREF (out) "Voltage Reference Output Pin, Typically 2V. This pin drives a resistor divider for the CTRL pin, either for analog dimming or for temperature limit/compensation of LED load. Can supply up to 100uA.", 2 PWM (in) "A signal low turns off switcher, idles oscillator and disconnects VC pin from all internal loads. PWMOUT pin follows PWM pin. PWM has an internal pull-down resistor. If not used, connect to INTVCC.", 3 SYNC (in) "The SYNC pin is used to synchronize the internal oscillator to an external logic level signal. The RT resistor should be chosen to program an internal switching frequency 20% slower than the SYNC pulse frequency. Gate (See Datasheet)", 4 SS (in) "Soft-Start Pin. This pin modulates oscillator frequency and compensation pin voltage (VC) clamp. The soft-start interval is set with an external capacitor. The pin has a 10uA (typical) pull-up current source to an internal 2.(See Datasheet)", 5 RT "Switching Frequency Adjustment Pin. Set the frequency using a resistor to GND (for resistor values, see the Typical Performance curve or Table 1). Do not leave the RT pin open.", 6 ~{SHDN}/UVLO (in) "Shutdown and Undervoltage Detect Pin. An accurate 1.22V falling threshold with externally programmable hysteresis detects when power is OK to enable switching. Rising hysteresis is generated by the external resistor divider (See Datasheet)", 7 INTVCC (power) "Regulated Supply for Internal Loads, GATE Driver and PWMOUT Driver. Supplied from VIN and regulates to 7.15V (typical). INTVCC must be bypassed with a 4.7uF capacitor placed close to the pin. Connect INTVCC directly to VIN (See Datasheet)", 8 VIN (power) "Input Supply Pin. Must be locally bypassed with a 0.22uF (or larger) capacitor placed close to the IC.", 9 SENSE (in) "The current sense input for the control loop. Kelvin connect this pin to the positive terminal of the switch current sense resistor, RSENSE, in the source of the NFET. The negative terminal of the current sense resistor (See Datasheet)", 10 GATE (out) "N-channel FET Gate Driver Output. Switches between INTVCC and GND. Driven to GND during shutdown, fault or idle states.", 11 PWMOUT (out) "Buffered Version of PWM Signal for Driving LED Load Disconnect NMOS or Level Shift. This pin also serves in a protection function for the FB overvoltage condition-will toggle if the FB input is greater than the FB regulation (See Datasheet)", 12 FB (in) "Voltage Loop Feedback Pin. FB is intended for constant-voltage regulation or for LED protection/ open LED detection. The internal transconductance amplifier with output VC will regulate FB to 1.25V (nominal) through the (See Datasheet)", 13 ISN (in) "Connection Point for the Negative Terminal of the Current Feedback Resistor. If ISN is greater than 2.9V, the LED current can be programmed by ILED = 100mV/RLED when VCTRL > 1.2V or ILED = (VCTRL -100mV)/ (10 • RLED) whe(See Datasheet)", 14 ISP (in) "Connection Point for the Positive Terminal of the Current Feedback Resistor. Input bias current is dependent upon CTRL pin voltage as shown in the TPC. ISP is an input to the short-circuit protection feature when ISN is less (See Datasheet)", 15 VC "Transconductance Error Amplifier Output Pin Used to Stabilize the Voltage Loop with an RC Network. This pin is high impedance when PWM is low, a feature that stores the demand current state variable for the next PWM high (See Datasheet)", 16 CTRL (in) "Current Sense Threshold Adjustment Pin. Regulating threshold V(ISP - ISN) is 1/10th VCTRL plus an offset for 0V < VCTRL < 1V. For VCTRL > 1.2V the current sense threshold is constant at the full-scale value of 100mV. For 1V (See Datasheet)", 17 EP (power) "Ground. This pin also serves as current sense input for control loop, sensing negative terminal of current sense resistor. Solder the exposed pad directly to ground plane."

## LT3755EUD-1#TRPBF
designator U?
LED Controller (Frequency Synchronization), 4.5 to 40 V Vin, 75 V Vout MAX, 16-pin QFN (UD-16), -40 to 125 degC, Pb-Free, Tape and Reel; Manufacturer: Linear Technology; PartNumber: LT3755EUD-1#TRPBF; Topology: Buck, Boost, Sepic, Buck-Boost, LED Driver; Vin Min(V): 4.5; DatasheetVersion: Rev. D; PackageVersion: Jun-10; PackageReference: UD-16; PackageDescription: 16-Pin Plastic QFN, Body 3 x 3 mm, Pitch 0.5 mm; Supplier 1: Digi-Key; Supplier Part Number 1: LT3755EUD-1#TRPBF-ND; Packing: Tape and Reel; RoHS: TRUE; Mounting Technology: Surface Mount; Code_JEDEC: MO-220; ComponentLink1Description: Manufacturer URL; ComponentLink1URL: http://www.linear.com/; ComponentLink2Description: Datasheet; ComponentLink2URL: http://cds.linear.com/docs/en/datasheet/37551fd.pdf; ComponentLink3Description: Package Specification; ComponentLink3URL: http://cds.linear.com/docs/en/packaging/QFN_16_05-08-1691.pdf
footprint LT-UD-16_N (QFN, 16-Leads, Body 3x3mm, Pitch 0.5mm, Thermal Pad 1.45x1.45mm, IPC Medium Density)
footprint LT-UD-16_L (QFN, 16-Leads, Body 3x3mm, Pitch 0.5mm, Thermal Pad 1.45x1.45mm, IPC High Density)
footprint LT-UD-16_M (QFN, 16-Leads, Body 3x3mm, Pitch 0.5mm, Thermal Pad 1.45x1.45mm, IPC Low Density)
pins: 1 VREF (out) "Voltage Reference Output Pin, Typically 2V. This pin drives a resistor divider for the CTRL pin, either for analog dimming or for temperature limit/compensation of LED load. Can supply up to 100uA.", 2 PWM (in) "A signal low turns off switcher, idles oscillator and disconnects VC pin from all internal loads. PWMOUT pin follows PWM pin. PWM has an internal pull-down resistor. If not used, connect to INTVCC.", 3 SYNC (in) "The SYNC pin is used to synchronize the internal oscillator to an external logic level signal. The RT resistor should be chosen to program an internal switching frequency 20% slower than the SYNC pulse frequency. Gate (See Datasheet)", 4 SS (in) "Soft-Start Pin. This pin modulates oscillator frequency and compensation pin voltage (VC) clamp. The soft-start interval is set with an external capacitor. The pin has a 10uA (typical) pull-up current source to an internal 2.(See Datasheet)", 5 RT "Switching Frequency Adjustment Pin. Set the frequency using a resistor to GND (for resistor values, see the Typical Performance curve or Table 1). Do not leave the RT pin open.", 6 ~{SHDN}/UVLO (in) "Shutdown and Undervoltage Detect Pin. An accurate 1.22V falling threshold with externally programmable hysteresis detects when power is OK to enable switching. Rising hysteresis is generated by the external resistor divider (See Datasheet)", 7 INTVCC (power) "Regulated Supply for Internal Loads, GATE Driver and PWMOUT Driver. Supplied from VIN and regulates to 7.15V (typical). INTVCC must be bypassed with a 4.7uF capacitor placed close to the pin. Connect INTVCC directly to VIN (See Datasheet)", 8 VIN (power) "Input Supply Pin. Must be locally bypassed with a 0.22uF (or larger) capacitor placed close to the IC.", 9 SENSE (in) "The current sense input for the control loop. Kelvin connect this pin to the positive terminal of the switch current sense resistor, RSENSE, in the source of the NFET. The negative terminal of the current sense resistor (See Datasheet)", 10 GATE (out) "N-channel FET Gate Driver Output. Switches between INTVCC and GND. Driven to GND during shutdown, fault or idle states.", 11 PWMOUT (out) "Buffered Version of PWM Signal for Driving LED Load Disconnect NMOS or Level Shift. This pin also serves in a protection function for the FB overvoltage condition-will toggle if the FB input is greater than the FB regulation (See Datasheet)", 12 FB (in) "Voltage Loop Feedback Pin. FB is intended for constant-voltage regulation or for LED protection/ open LED detection. The internal transconductance amplifier with output VC will regulate FB to 1.25V (nominal) through the (See Datasheet)", 13 ISN (in) "Connection Point for the Negative Terminal of the Current Feedback Resistor. If ISN is greater than 2.9V, the LED current can be programmed by ILED = 100mV/RLED when VCTRL > 1.2V or ILED = (VCTRL -100mV)/ (10 • RLED) whe(See Datasheet)", 14 ISP (in) "Connection Point for the Positive Terminal of the Current Feedback Resistor. Input bias current is dependent upon CTRL pin voltage as shown in the TPC. ISP is an input to the short-circuit protection feature when ISN is less (See Datasheet)", 15 VC "Transconductance Error Amplifier Output Pin Used to Stabilize the Voltage Loop with an RC Network. This pin is high impedance when PWM is low, a feature that stores the demand current state variable for the next PWM high (See Datasheet)", 16 CTRL (in) "Current Sense Threshold Adjustment Pin. Regulating threshold V(ISP - ISN) is 1/10th VCTRL plus an offset for 0V < VCTRL < 1V. For VCTRL > 1.2V the current sense threshold is constant at the full-scale value of 100mV. For 1V (See Datasheet)", 17 EP (power) "Ground. This pin also serves as current sense input for control loop, sensing negative terminal of current sense resistor. Solder the exposed pad directly to ground plane."